# EAGLE library part SSW-108-02-S-T (library con-samtec)
THROUGH-HOLE .025" SQ POST SOCKET Source: Samtec SSW.pdf
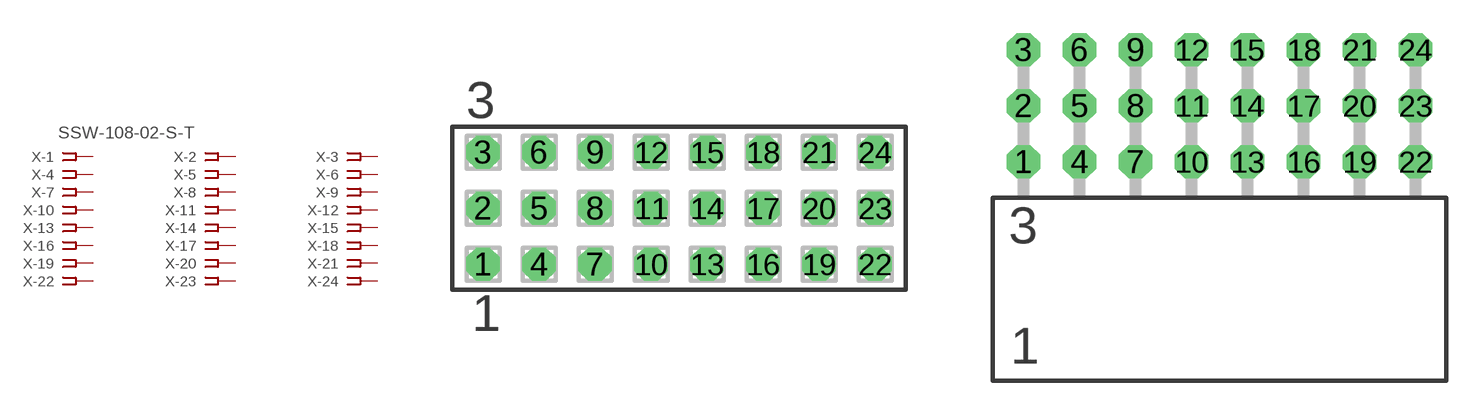
[diagram p48: symbol with the pads of SSW-108-02-S-T; footprints SSW-108-02-S-T, SSW-108-02-S-T-RA]

Designator prefix X; gates -1=FPINV -2=FPIN -3=FPIN -4=FPIN -5=FPIN -6=FPIN -7=FPIN -8=FPIN -9=FPIN -10=FPIN -11=FPIN -12=FPIN -13=FPIN -14=FPIN -15=FPIN -16=FPIN -17=FPIN -18=FPIN -19=FPIN -20=FPIN -21=FPIN -22=FPIN -23=FPIN -24=FPIN

## SSW-108-02-S-T  [SSW-108-02-S-T]
1  -1:1  pas
2  -2:1  pas
3  -3:1  pas
4  -4:1  pas
5  -5:1  pas
6  -6:1  pas
7  -7:1  pas
8  -8:1  pas
9  -9:1  pas
10  -10:1  pas
11  -11:1  pas
12  -12:1  pas
13  -13:1  pas
14  -14:1  pas
15  -15:1  pas
16  -16:1  pas
17  -17:1  pas
18  -18:1  pas
19  -19:1  pas
20  -20:1  pas
21  -21:1  pas
22  -22:1  pas
23  -23:1  pas
24  -24:1  pas

## SSW-108-02-S-TRA  [SSW-108-02-S-T-RA]
Pads as for SSW-108-02-S-T

## Footprint SSW-108-02-S-T (pad centres in mm)
THROUGH-HOLE .025" SQ POST SOCKET Source: Samtec SSW.pdf
drill 1 pad 1.5 octagon: 1 -8.89,-2.54; 2 -8.89,0; 3 -8.89,2.54; 4 -6.35,-2.54; 5 -6.35,0; 6 -6.35,2.54; 7 -3.81,-2.54; 8 -3.81,0; 9 -3.81,2.54; 10 -1.27,-2.54; 11 -1.27,0; 12 -1.27,2.54; 13 1.27,-2.54; 14 1.27,0; 15 1.27,2.54; 16 3.81,-2.54; 17 3.81,0; 18 3.81,2.54; 19 6.35,-2.54; 20 6.35,0; 21 6.35,2.54; 22 8.89,-2.54; 23 8.89,0; 24 8.89,2.54

## Footprint SSW-108-02-S-T-RA (pad centres in mm)
THROUGH-HOLE .025" SQ POST SOCKET Source: Samtec SSW.pdf
drill 1 pad 1.5 octagon: 1 -8.89,1.524; 2 -8.89,4.064; 3 -8.89,6.604; 4 -6.35,1.524; 5 -6.35,4.064; 6 -6.35,6.604; 7 -3.81,1.524; 8 -3.81,4.064; 9 -3.81,6.604; 10 -1.27,1.524; 11 -1.27,4.064; 12 -1.27,6.604; 13 1.27,1.524; 14 1.27,4.064; 15 1.27,6.604; 16 3.81,1.524; 17 3.81,4.064; 18 3.81,6.604; 19 6.35,1.524; 20 6.35,4.064; 21 6.35,6.604; 22 8.89,1.524; 23 8.89,4.064; 24 8.89,6.604